# Altium footprint library MBR5U100TP.PcbLib: 1 footprints
Each footprint in its own frame and in the unit in brackets; x right, y up, seen from the top. Pads: shape width x height; smd on the part's side, far side on the other; paste and mask are expansions set on the pad; w line width, h text height; cw(c..) or ccw(c..) is an arc to the next point about the centre after c.
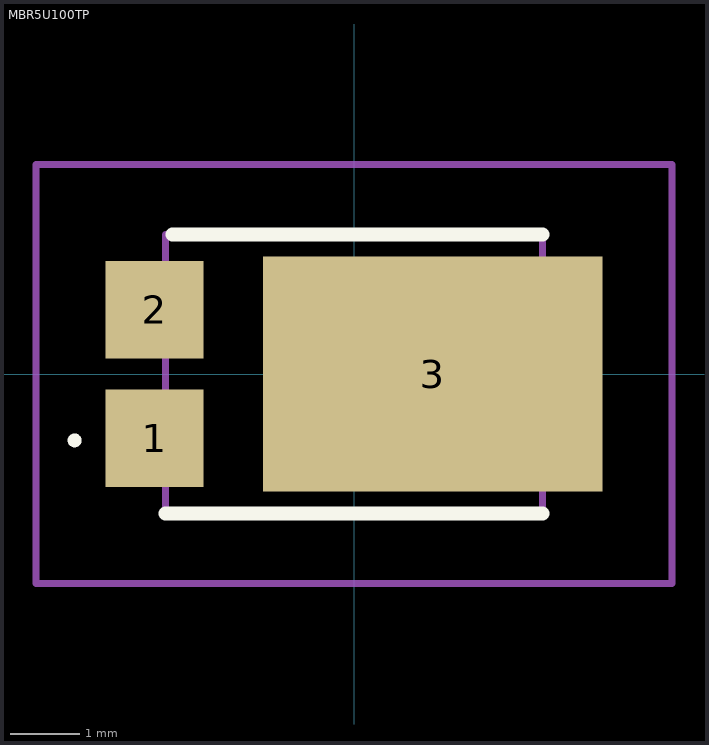
[diagram p0: the footprint, top view; thin cyan lines are the x and y axes]

## MBR5U100TP [mm]
pads (3):
  rect 1.4x1.4 smd: 1(-2.855,-0.92) 2(-2.855,0.92)
  rect 4.86x3.36 smd: 3(1.125,0)
Top Overlay:
  lines w0.1: -4,-1 -4,-1 ; -4,-1 ccw(c-4,-0.95) -4,-0.9 ; -4,-1 cw(c-4,-0.95) -4,-0.9 ; -4,-0.9 -4,-0.9
  lines w0.2: -2.7,-2 2.7,-2 ; -2.6,2 2.7,2
Mechanical 15:
  lines w0.1: -2.7,-2 2.7,-2 2.7,2 -2.7,2 -2.7,-2
Mechanical 20:
  lines w0.1: -4.555,-3 4.555,-3 4.555,3 -4.555,3 -4.555,-3
3D body "MBR5U100-TP.stp": height 5.8, standoff -4.65, extent -10,-3.376 10,3.376